# Altium schematic symbol library NonClassifiedOpAmp.SchLib: 1 symbol
Pins are listed as number, name and electrical type; pins without a type are passive.

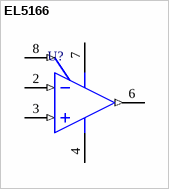
[diagram p0: symbol EL5166]

## EL5166
designator U?
1.4GHz Current Feedback Amplifiers with Enable
footprint SOP-8_N (SOIC, 8-Leads, Body 4.9x3.9mm, Pitch 1.27mm, IPC Medium Density)
footprint SOP-8_L (SOIC, 8-Leads, Body 4.9x3.9mm, Pitch 1.27mm, IPC High Density)
footprint SOP-8_M (SOIC, 8-Leads, Body 4.9x3.9mm, Pitch 1.27mm, IPC Low Density)
pins: 2 VIN- (in), 3 VIN+ (in), 4 VS- (power), 6 VOUT (out), 7 VS+ (power), 8 ~{CE} (in)